# EAGLE library part S25FL116K0XMFA013 (library mbed-HDK-IC)
Serial Flash 16Mb 108 Mhz
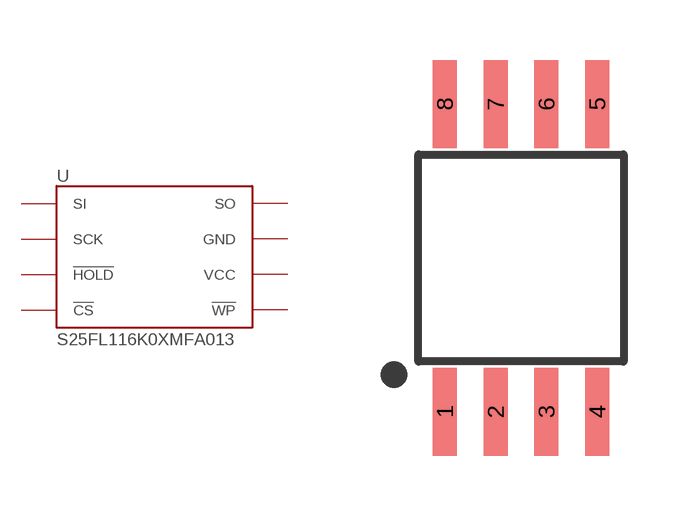
[diagram p26: symbol with the pads of SO8-WIDE; footprint SO8-WIDE]

Designator prefix U

## S25FL116K0XMFA013 (MF: Cypress Semiconductor Corp; MFN: S25FL116K0XMFA013; OC-DIGIKEY: S25FL116K0XMFA013-ND; OC-MOUSER: 727-25FL116K0XMFA013; OC-NEWARK: 51Y0921)  [SO8-WIDE]
1  !CS
2  SO
3  !WP
4  GND
5  SI
6  SCK
7  !HOLD
8  VCC

## Footprint SO8-WIDE (pad centres in mm)
smd 0.6 x 2.2: 1 -1.905,-3.85; 2 -0.635,-3.85; 3 0.635,-3.85; 4 1.905,-3.85; 5 1.905,3.85; 6 0.635,3.85; 7 -0.635,3.85; 8 -1.905,3.85